# EAGLE library part 66200711122 (library Wire_to_Board_Connectors_rev15d)
WR-MPC3 3.00mm Male Single Row Vertical Header, 7 Pins=>Code : Con_WTB_MPC3_1_PCB_66200711122 <http://katalog.we-online.de/media/thumbs2/eican/thb_Con_WTB_MPC3_1_PCB_6620xx11122_pf2.jpg> Details see: http://katalog.we-online.de/en/em/662_0xx_111_22 Created 2014-06-06, Karrer Zheng 2014 (C) Würth Elektronik
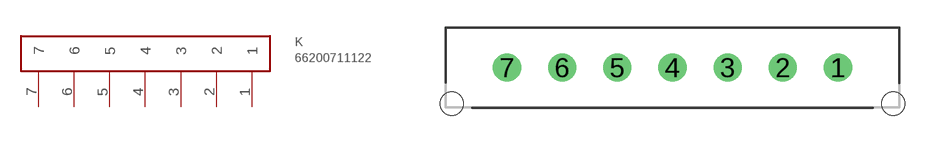
[diagram p335: symbol with the pads of 66200711122; footprint 66200711122]

Designator prefix K

## 66200711122  [66200711122]
1  1
2  2
3  3
4  4
5  5
6  6
7  7

## Footprint 66200711122 (pad centres in mm)
WR-MPC3 3.00mm Male Single Row Vertical Header, 7 Pins
drill 1.02: 1 9,0; 2 6,0; 3 3,0; 4 0,0; 5 -3,0; 6 -6,0; 7 -9,0
hole 1.27 at 12,-1.96
hole 1.27 at -12,-1.96